# Altium footprint library PCB - CAPACITOR - ELECTROLYTIC - CAPAE530X610N.PCBLIB: 1 footprints
Each footprint in its own frame and in the unit in brackets; x right, y up, seen from the top. Pads: shape width x height; smd on the part's side, far side on the other; paste and mask are expansions set on the pad; w line width, h text height; cw(c..) or ccw(c..) is an arc to the next point about the centre after c.
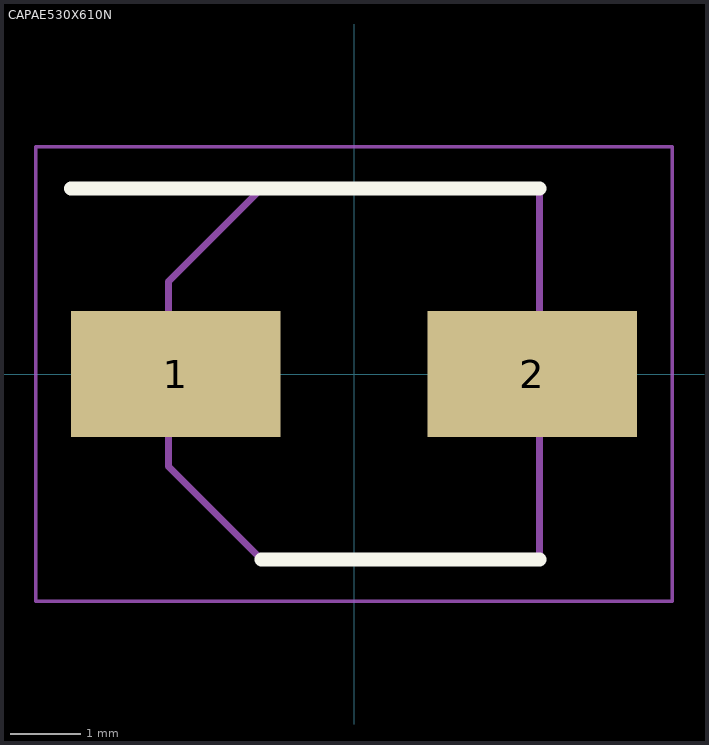
[diagram p0: the footprint, top view; thin cyan lines are the x and y axes]

## CAPAE530X610N [mm]
pads (2):
  rect 3x1.8 smd: 1(-2.55,0) 2(2.55,0)
Top Overlay:
  lines w0.2: -4.05,2.65 2.65,2.65 ; -1.325,-2.65 2.65,-2.65
Mechanical 13:
  lines w0.1: -2.65,-1.325 -2.65,1.325 -1.325,2.65 2.65,2.65 2.65,-2.65 -1.325,-2.65 -2.65,-1.325
Mechanical 15:
  lines w0.05: -4.55,-3.25 4.55,-3.25 4.55,3.25 -4.55,3.25 -4.55,-3.25
3D body "EEEFT1H220AR.stp": height 6.1, standoff 0, extent -3.25,-2.75 3.25,2.75